# Altium footprint library Package_SO.PcbLib: 393 footprints (part 2 of 25)
Each footprint in its own frame and in the unit in brackets; x right, y up, seen from the top. Pads: shape width x height; smd on the part's side, far side on the other; paste and mask are expansions set on the pad; w line width, h text height; cw(c..) or ccw(c..) is an arc to the next point about the centre after c.
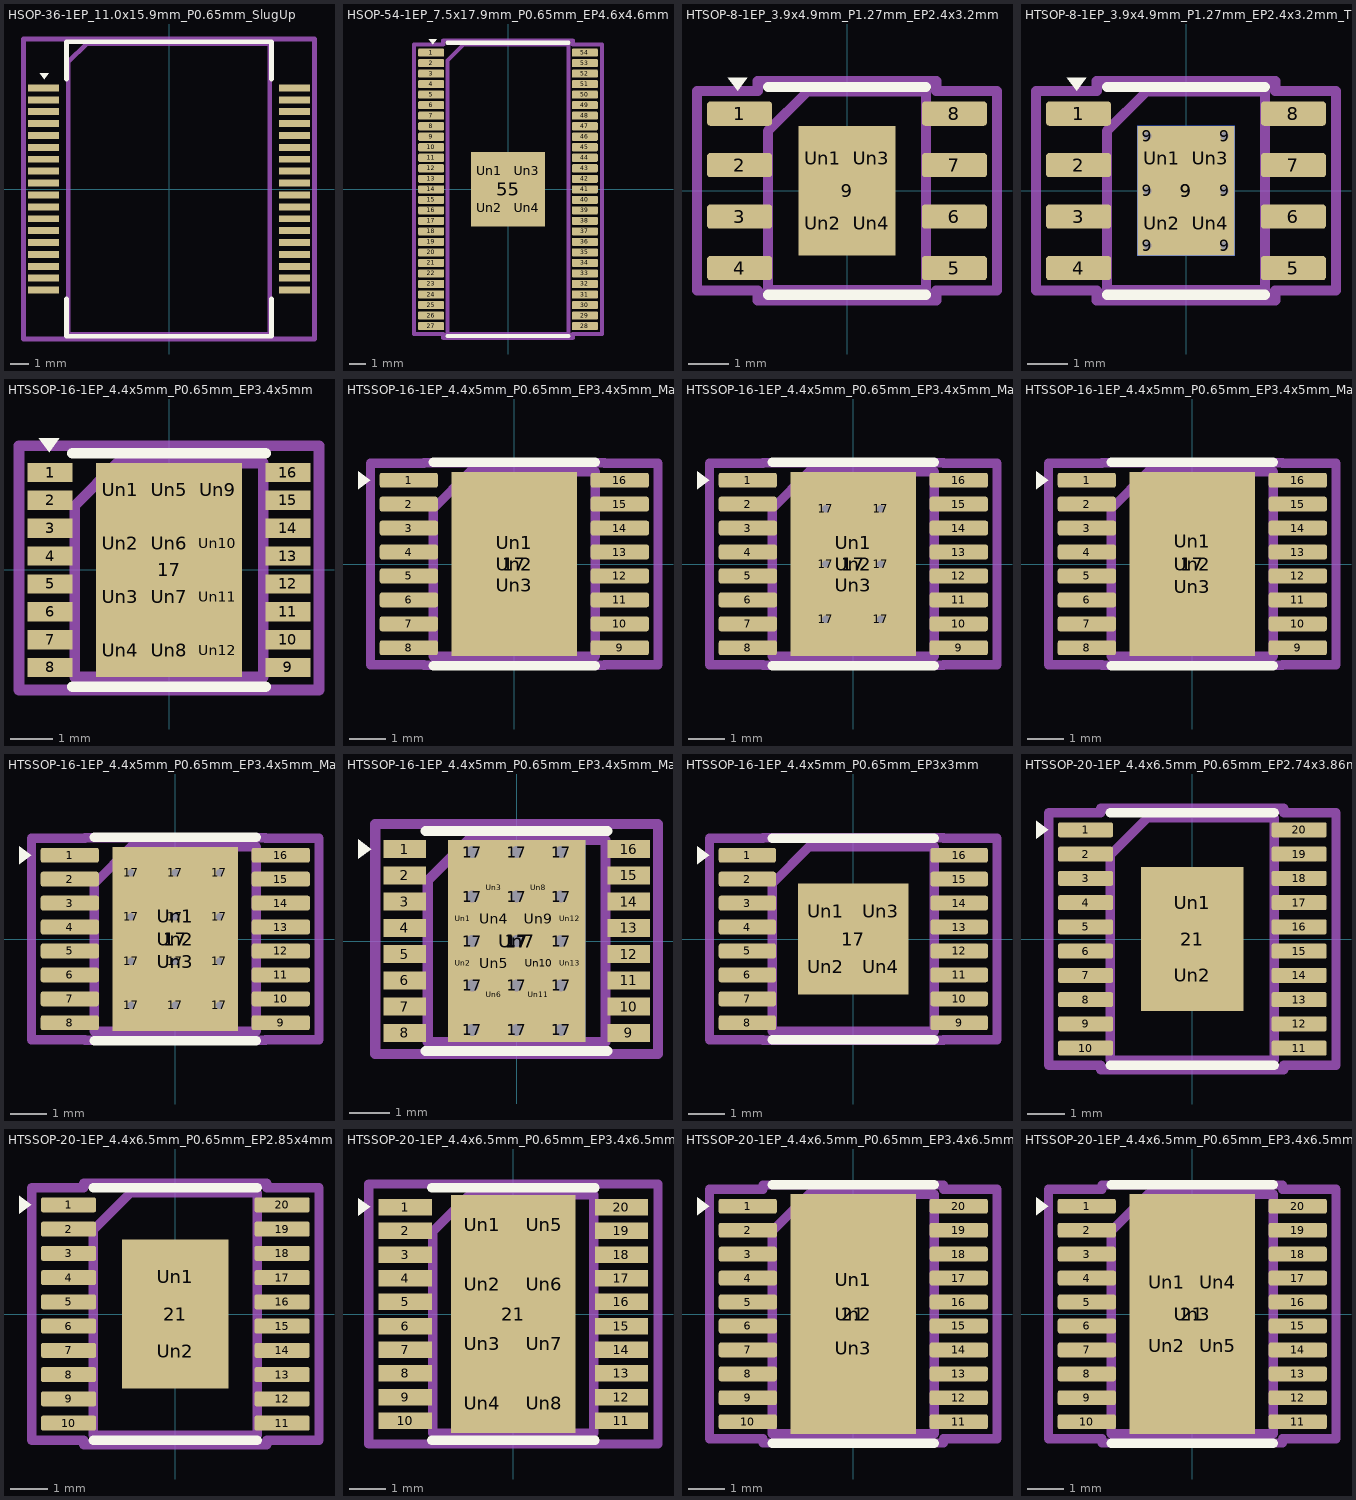
[diagram p1: the footprints below, top view; thin cyan lines are the x and y axes]

## HSOP-36-1EP_11.0x15.9mm_P0.65mm_SlugUp [mm]
pads (36):
  rect 1.7x0.38 smd: 1(-6.85,5.525) 2(-6.85,4.875) 3(-6.85,4.225) 4(-6.85,3.575) 5(-6.85,2.925) 6(-6.85,2.275) 7(-6.85,1.625) 8(-6.85,0.975) 9(-6.85,0.325) 10(-6.85,-0.325) 11(-6.85,-0.975) 12(-6.85,-1.625) 13(-6.85,-2.275) 14(-6.85,-2.925) 15(-6.85,-3.575) 16(-6.85,-4.225) 17(-6.85,-4.875) 18(-6.85,-5.525) 19(6.85,-5.525) 20(6.85,-4.875) 21(6.85,-4.225) 22(6.85,-3.575) 23(6.85,-2.925) 24(6.85,-2.275) 25(6.85,-1.625) 26(6.85,-0.975) 27(6.85,-0.325) 28(6.85,0.325) 29(6.85,0.975) 30(6.85,1.625) 31(6.85,2.275) 32(6.85,2.925) 33(6.85,3.575) 34(6.85,4.225) 35(6.85,4.875) 36(6.85,5.525)
F.SilkS:
  region: -6.825,6 -7.065,6.33 -6.585,6.33
  lines w0.254: -5.6,-6 -5.6,-8.05 5.6,-8.05 5.6,-6 ; -5.6,6 -5.6,8.05 5.6,8.05 5.6,6
Top Assembly:
  lines w0.254: -5.5,-7.95 5.5,-7.95 5.5,7.95 -4.5,7.95 -5.5,6.95 -5.5,-7.95
  text "'.Designator'" at -4.047,-0.84 h1
Top Courtyard:
  lines w0.254: -7.95,-8.2 7.95,-8.2 7.95,8.2 -7.95,8.2 -7.95,-8.2
Top Designator:
  text ".Designator" at -7.618,-0.508 h1.52

## HSOP-54-1EP_7.5x17.9mm_P0.65mm_EP4.6x4.6mm [mm]
pads (59):
  rrect25% 1.6x0.5 smd: 1(-4.75,8.45) 2(-4.75,7.8) 3(-4.75,7.15) 4(-4.75,6.5) 5(-4.75,5.85) 6(-4.75,5.2) 7(-4.75,4.55) 8(-4.75,3.9) 9(-4.75,3.25) 10(-4.75,2.6) 11(-4.75,1.95) 12(-4.75,1.3) 13(-4.75,0.65) 14(-4.75,0) 15(-4.75,-0.65) 16(-4.75,-1.3) 17(-4.75,-1.95) 18(-4.75,-2.6) 19(-4.75,-3.25) 20(-4.75,-3.9) 21(-4.75,-4.55) 22(-4.75,-5.2) 23(-4.75,-5.85) 24(-4.75,-6.5) 25(-4.75,-7.15) 26(-4.75,-7.8) 27(-4.75,-8.45) 28(4.75,-8.45) 29(4.75,-7.8) 30(4.75,-7.15) 31(4.75,-6.5) 32(4.75,-5.85) 33(4.75,-5.2) 34(4.75,-4.55) 35(4.75,-3.9) 36(4.75,-3.25) 37(4.75,-2.6) 38(4.75,-1.95) 39(4.75,-1.3) 40(4.75,-0.65) 41(4.75,0) 42(4.75,0.65) 43(4.75,1.3) 44(4.75,1.95) 45(4.75,2.6) 46(4.75,3.25) 47(4.75,3.9) 48(4.75,4.55) 49(4.75,5.2) 50(4.75,5.85) 51(4.75,6.5) 52(4.75,7.15) 53(4.75,7.8) 54(4.75,8.45)
  rect 4.6x4.6 smd: 55(0,0)
  rrect14% 1.85x1.85 on Top Paste: Un1(-1.15,1.15) Un2(-1.15,-1.15) Un3(1.15,1.15) Un4(1.15,-1.15)
F.SilkS:
  region: -4.65,8.96 -4.89,9.29 -4.41,9.29
  lines w0.254: -3.75,-9.06 0,-9.06 3.75,-9.06 ; -3.75,9.06 0,9.06 3.75,9.06
Top Assembly:
  lines w0.254: -3.75,-8.95 3.75,-8.95 3.75,8.95 -2.75,8.95 -3.75,7.95 -3.75,-8.95
  text "'.Designator'" at -4.047,-0.84 h1
Top Courtyard:
  lines w0.254: -5.8,-8.95 -4,-8.95 -4,-9.2 4,-9.2 4,-8.95 5.8,-8.95 5.8,8.95 4,8.95 4,9.2 -4,9.2 -4,8.95 -5.8,8.95 -5.8,-8.95
Top Designator:
  text ".Designator" at -7.618,-0.508 h1.52

## HTSOP-8-1EP_3.9x4.9mm_P1.27mm_EP2.4x3.2mm [mm]
pads (13):
  rrect25% 1.6x0.6 smd: 1(-2.65,1.905) 2(-2.65,0.635) 3(-2.65,-0.635) 4(-2.65,-1.905) 5(2.65,-1.905) 6(2.65,-0.635) 7(2.65,0.635) 8(2.65,1.905)
  rect 2.4x3.2 smd: 9(0,0)
  rrect25% 0.97x1.29 on Top Paste: Un1(-0.6,0.8) Un2(-0.6,-0.8) Un3(0.6,0.8) Un4(0.6,-0.8)
F.SilkS:
  region: -2.7,2.465 -2.94,2.795 -2.46,2.795
  lines w0.254: -1.95,-2.56 0,-2.56 1.95,-2.56 ; -1.95,2.56 0,2.56 1.95,2.56
Top Assembly:
  lines w0.254: -1.95,-2.45 1.95,-2.45 1.95,2.45 -0.975,2.45 -1.95,1.475 -1.95,-2.45
  text "'.Designator'" at -3.969,-0.827 h0.98
Top Courtyard:
  lines w0.254: -3.7,-2.46 -2.2,-2.46 -2.2,-2.7 2.2,-2.7 2.2,-2.46 3.7,-2.46 3.7,2.46 2.2,2.46 2.2,2.7 -2.2,2.7 -2.2,2.46 -3.7,2.46 -3.7,-2.46
Top Designator:
  text ".Designator" at -7.763,-0.508 h1.52

## HTSOP-8-1EP_3.9x4.9mm_P1.27mm_EP2.4x3.2mm_ThermalVias [mm]
pads (20):
  rrect25% 1.6x0.6 smd: 1(-2.65,1.905) 2(-2.65,0.635) 3(-2.65,-0.635) 4(-2.65,-1.905) 5(2.65,-1.905) 6(2.65,-0.635) 7(2.65,0.635) 8(2.65,1.905)
  round 0.5 hole 0.2: 9(-0.95,-1.35) 9(-0.95,0) 9(-0.95,1.35) 9(0.95,-1.35) 9(0.95,0) 9(0.95,1.35)
  rect 2.4x3.2 smd: 9(0,0)
  rect 2.4x3.2 smd far side: 9(0,0)
  rrect25% 0.97x1.29 on Top Paste: Un1(-0.6,0.8) Un2(-0.6,-0.8) Un3(0.6,0.8) Un4(0.6,-0.8)
F.SilkS:
  region: -2.7,2.465 -2.94,2.795 -2.46,2.795
  lines w0.254: -1.95,-2.56 0,-2.56 1.95,-2.56 ; -1.95,2.56 0,2.56 1.95,2.56
Top Assembly:
  lines w0.254: -1.95,-2.45 1.95,-2.45 1.95,2.45 -0.975,2.45 -1.95,1.475 -1.95,-2.45
  text "'.Designator'" at -3.969,-0.827 h0.98
Top Courtyard:
  lines w0.254: -3.7,-2.46 -2.2,-2.46 -2.2,-2.7 2.2,-2.7 2.2,-2.46 3.7,-2.46 3.7,2.46 2.2,2.46 2.2,2.7 -2.2,2.7 -2.2,2.46 -3.7,2.46 -3.7,-2.46
Top Designator:
  text ".Designator" at -7.763,-0.508 h1.52

## HTSSOP-16-1EP_4.4x5mm_P0.65mm_EP3.4x5mm [mm]
pads (29):
  rect 1.05x0.45 smd: 1(-2.775,2.275) 2(-2.775,1.625) 3(-2.775,0.975) 4(-2.775,0.325) 5(-2.775,-0.325) 6(-2.775,-0.975) 7(-2.775,-1.625) 8(-2.775,-2.275) 9(2.775,-2.275) 10(2.775,-1.625) 11(2.775,-0.975) 12(2.775,-0.325) 13(2.775,0.325) 14(2.775,0.975) 15(2.775,1.625) 16(2.775,2.275)
  rect 3.4x5 smd: 17(0,0)
  rect 0.88x1.05 on Top Paste: Un1(-1.133,1.875) Un2(-1.133,0.625) Un3(-1.133,-0.625) Un4(-1.133,-1.875) Un5(0,1.875) Un6(0,0.625) Un7(0,-0.625) Un8(0,-1.875) Un9(1.133,1.875) Un10(1.133,0.625) Un11(1.133,-0.625) Un12(1.133,-1.875)
F.SilkS:
  region: -2.8,2.75 -3.04,3.08 -2.56,3.08
  lines w0.254: -2.25,-2.725 2.25,-2.725 ; -2.25,2.725 2.25,2.725
Top Assembly:
  lines w0.254: -2.2,-2.5 2.2,-2.5 2.2,2.5 -1.2,2.5 -2.2,1.5 -2.2,-2.5
  text "'.Designator'" at -4.047,-0.84 h1
Top Courtyard:
  lines w0.254: -3.5,-2.8 3.5,-2.8 3.5,2.9 -3.5,2.9 -3.5,-2.8
Top Designator:
  text ".Designator" at -7.768,-0.431 h1.52

## HTSSOP-16-1EP_4.4x5mm_P0.65mm_EP3.4x5mm_Mask2.46x2.31mm [mm]
pads (20):
  rrect25% 1.575x0.4 smd: 1(-2.863,2.275) 2(-2.863,1.625) 3(-2.863,0.975) 4(-2.863,0.325) 5(-2.863,-0.325) 6(-2.863,-0.975) 7(-2.863,-1.625) 8(-2.863,-2.275) 9(2.863,-2.275) 10(2.863,-1.625) 11(2.863,-0.975) 12(2.863,-0.325) 13(2.863,0.325) 14(2.863,0.975) 15(2.863,1.625) 16(2.863,2.275)
  rect 3.4x5 smd: 17(0,0)
  rrect25% 1.98x0.93 on Top Paste: Un1(0,0.58) Un3(0,-0.58)
  rect 2.46x2.31 on Top Solder: Un2(0,0)
F.SilkS:
  region: -3.91,2.275 -4.24,2.035 -4.24,2.515
  lines w0.254: -2.2,-2.76 0,-2.76 2.2,-2.76 ; -2.2,2.76 0,2.76 2.2,2.76
Top Assembly:
  lines w0.254: -2.2,-2.5 2.2,-2.5 2.2,2.5 -1.2,2.5 -2.2,1.5 -2.2,-2.5
  text "'.Designator'" at -4.047,-0.84 h1
Top Courtyard:
  lines w0.254: -3.9,-2.73 -2.45,-2.73 -2.45,-2.75 2.45,-2.75 2.45,-2.73 3.9,-2.73 3.9,2.73 2.45,2.73 2.45,2.75 -2.45,2.75 -2.45,2.73 -3.9,2.73 -3.9,-2.73
Top Designator:
  text ".Designator" at -7.724,-0.508 h1.52

## HTSSOP-16-1EP_4.4x5mm_P0.65mm_EP3.4x5mm_Mask2.46x2.31mm_ThermalVias [mm]
pads (27):
  rrect25% 1.575x0.4 smd: 1(-2.863,2.275) 2(-2.863,1.625) 3(-2.863,0.975) 4(-2.863,0.325) 5(-2.863,-0.325) 6(-2.863,-0.975) 7(-2.863,-1.625) 8(-2.863,-2.275) 9(2.863,-2.275) 10(2.863,-1.625) 11(2.863,-0.975) 12(2.863,-0.325) 13(2.863,0.325) 14(2.863,0.975) 15(2.863,1.625) 16(2.863,2.275)
  round 0.5 hole 0.2: 17(-0.75,-1.5) 17(-0.75,0) 17(-0.75,1.5) 17(0.75,-1.5) 17(0.75,0) 17(0.75,1.5)
  rect 3.4x5 smd: 17(0,0)
  rect 2x3.5 smd far side: 17(0,0)
  rrect25% 1.98x0.93 on Top Paste: Un1(0,0.58) Un3(0,-0.58)
  rect 2.46x2.31 on Top Solder: Un2(0,0)
F.SilkS:
  region: -3.91,2.275 -4.24,2.035 -4.24,2.515
  lines w0.254: -2.2,-2.76 0,-2.76 2.2,-2.76 ; -2.2,2.76 0,2.76 2.2,2.76
Top Assembly:
  lines w0.254: -2.2,-2.5 2.2,-2.5 2.2,2.5 -1.2,2.5 -2.2,1.5 -2.2,-2.5
  text "'.Designator'" at -4.047,-0.84 h1
Top Courtyard:
  lines w0.254: -3.9,-2.73 -2.45,-2.73 -2.45,-2.75 2.45,-2.75 2.45,-2.73 3.9,-2.73 3.9,2.73 2.45,2.73 2.45,2.75 -2.45,2.75 -2.45,2.73 -3.9,2.73 -3.9,-2.73
Top Designator:
  text ".Designator" at -7.724,-0.508 h1.52

## HTSSOP-16-1EP_4.4x5mm_P0.65mm_EP3.4x5mm_Mask2.66x2.46mm [mm]
pads (20):
  rrect25% 1.575x0.4 smd: 1(-2.863,2.275) 2(-2.863,1.625) 3(-2.863,0.975) 4(-2.863,0.325) 5(-2.863,-0.325) 6(-2.863,-0.975) 7(-2.863,-1.625) 8(-2.863,-2.275) 9(2.863,-2.275) 10(2.863,-1.625) 11(2.863,-0.975) 12(2.863,-0.325) 13(2.863,0.325) 14(2.863,0.975) 15(2.863,1.625) 16(2.863,2.275)
  rect 3.4x5 smd: 17(0,0)
  rrect25% 2.14x0.99 on Top Paste: Un1(0,0.615) Un3(0,-0.615)
  rect 2.66x2.46 on Top Solder: Un2(0,0)
F.SilkS:
  region: -3.91,2.275 -4.24,2.035 -4.24,2.515
  lines w0.254: -2.2,-2.76 0,-2.76 2.2,-2.76 ; -2.2,2.76 0,2.76 2.2,2.76
Top Assembly:
  lines w0.254: -2.2,-2.5 2.2,-2.5 2.2,2.5 -1.2,2.5 -2.2,1.5 -2.2,-2.5
  text "'.Designator'" at -4.047,-0.84 h1
Top Courtyard:
  lines w0.254: -3.9,-2.73 -2.45,-2.73 -2.45,-2.75 2.45,-2.75 2.45,-2.73 3.9,-2.73 3.9,2.73 2.45,2.73 2.45,2.75 -2.45,2.75 -2.45,2.73 -3.9,2.73 -3.9,-2.73
Top Designator:
  text ".Designator" at -7.724,-0.508 h1.52

## HTSSOP-16-1EP_4.4x5mm_P0.65mm_EP3.4x5mm_Mask2.66x2.46mm_ThermalVias [mm]
pads (33):
  rrect25% 1.575x0.4 smd: 1(-2.863,2.275) 2(-2.863,1.625) 3(-2.863,0.975) 4(-2.863,0.325) 5(-2.863,-0.325) 6(-2.863,-0.975) 7(-2.863,-1.625) 8(-2.863,-2.275) 9(2.863,-2.275) 10(2.863,-1.625) 11(2.863,-0.975) 12(2.863,-0.325) 13(2.863,0.325) 14(2.863,0.975) 15(2.863,1.625) 16(2.863,2.275)
  round 0.5 hole 0.2: 17(-1.2,-1.8) 17(-1.2,-0.6) 17(-1.2,0.6) 17(-1.2,1.8) 17(0,-1.8) 17(0,-0.6) 17(0,0.6) 17(0,1.8) 17(1.2,-1.8) 17(1.2,-0.6) 17(1.2,0.6) 17(1.2,1.8)
  rect 3.4x5 smd: 17(0,0)
  rect 2.9x4.1 smd far side: 17(0,0)
  rrect25% 2.14x0.99 on Top Paste: Un1(0,0.615) Un3(0,-0.615)
  rect 2.66x2.46 on Top Solder: Un2(0,0)
F.SilkS:
  region: -3.91,2.275 -4.24,2.035 -4.24,2.515
  lines w0.254: -2.2,-2.76 0,-2.76 2.2,-2.76 ; -2.2,2.76 0,2.76 2.2,2.76
Top Assembly:
  lines w0.254: -2.2,-2.5 2.2,-2.5 2.2,2.5 -1.2,2.5 -2.2,1.5 -2.2,-2.5
  text "'.Designator'" at -4.047,-0.84 h1
Top Courtyard:
  lines w0.254: -3.9,-2.73 -2.45,-2.73 -2.45,-2.75 2.45,-2.75 2.45,-2.73 3.9,-2.73 3.9,2.73 2.45,2.73 2.45,2.75 -2.45,2.75 -2.45,2.73 -3.9,2.73 -3.9,-2.73
Top Designator:
  text ".Designator" at -7.724,-0.508 h1.52

## HTSSOP-16-1EP_4.4x5mm_P0.65mm_EP3.4x5mm_Mask3x3mm_ThermalVias [mm]
pads (46):
  rect 1.05x0.45 smd: 1(-2.775,2.275) 2(-2.775,1.625) 3(-2.775,0.975) 4(-2.775,0.325) 5(-2.775,-0.325) 6(-2.775,-0.975) 7(-2.775,-1.625) 8(-2.775,-2.275) 9(2.775,-2.275) 10(2.775,-1.625) 11(2.775,-0.975) 12(2.775,-0.325) 13(2.775,0.325) 14(2.775,0.975) 15(2.775,1.625) 16(2.775,2.275)
  round 0.6 hole 0.3: 17(-1.1,-2.2) 17(-1.1,-1.1) 17(-1.1,0) 17(-1.1,1.1) 17(-1.1,2.2) 17(0,-2.2) 17(0,-1.1) 17(0,0) 17(0,1.1) 17(0,2.2) 17(1.1,-2.2) 17(1.1,-1.1) 17(1.1,0) 17(1.1,1.1) 17(1.1,2.2)
  rect 3.4x5 smd: 17(0,0)
  rect 3.4x5 smd far side: 17(0,0)
  rect 0.25x0.8 on Top Paste: Un1(-1.325,0.55) Un2(-1.325,-0.55) Un12(1.325,0.55) Un13(1.325,-0.55)
  rect 0.8x0.25 on Top Paste: Un3(-0.55,1.325) Un6(-0.55,-1.325) Un8(0.55,1.325) Un11(0.55,-1.325)
  rect 0.85x0.8 on Top Paste: Un4(-0.55,0.55)
  rect 0.85x0.85 on Top Paste: Un5(-0.55,-0.55) Un9(0.55,0.55) Un10(0.55,-0.55)
  rect 3x3 on Top Solder: Un7(0,0)
F.SilkS:
  region: -3.6,2.275 -3.93,2.035 -3.93,2.515
  lines w0.254: -2.25,-2.725 2.25,-2.725 ; -2.25,2.725 2.25,2.725
Top Assembly:
  lines w0.254: -2.2,-2.5 2.2,-2.5 2.2,2.5 -1.2,2.5 -2.2,1.5 -2.2,-2.5
  text "'.Designator'" at -4.047,-0.84 h1
Top Courtyard:
  lines w0.254: -3.5,-2.8 3.5,-2.8 3.5,2.9 -3.5,2.9 -3.5,-2.8
Top Designator:
  text ".Designator" at -7.768,-0.458 h1.52

## HTSSOP-16-1EP_4.4x5mm_P0.65mm_EP3x3mm [mm]
pads (21):
  rrect25% 1.55x0.4 smd: 1(-2.875,2.275) 2(-2.875,1.625) 3(-2.875,0.975) 4(-2.875,0.325) 5(-2.875,-0.325) 6(-2.875,-0.975) 7(-2.875,-1.625) 8(-2.875,-2.275) 9(2.875,-2.275) 10(2.875,-1.625) 11(2.875,-0.975) 12(2.875,-0.325) 13(2.875,0.325) 14(2.875,0.975) 15(2.875,1.625) 16(2.875,2.275)
  rect 3x3 smd: 17(0,0)
  rrect21% 1.21x1.21 on Top Paste: Un1(-0.75,0.75) Un2(-0.75,-0.75) Un3(0.75,0.75) Un4(0.75,-0.75)
F.SilkS:
  region: -3.91,2.275 -4.24,2.035 -4.24,2.515
  lines w0.254: -2.2,-2.735 0,-2.735 2.2,-2.735 ; -2.2,2.735 0,2.735 2.2,2.735
Top Assembly:
  lines w0.254: -2.2,-2.5 2.2,-2.5 2.2,2.5 -1.2,2.5 -2.2,1.5 -2.2,-2.5
  text "'.Designator'" at -4.047,-0.84 h1
Top Courtyard:
  lines w0.254: -3.9,-2.73 -2.45,-2.73 -2.45,-2.75 2.45,-2.75 2.45,-2.73 3.9,-2.73 3.9,2.73 2.45,2.73 2.45,2.75 -2.45,2.75 -2.45,2.73 -3.9,2.73 -3.9,-2.73
Top Designator:
  text ".Designator" at -7.724,-0.508 h1.52

## HTSSOP-20-1EP_4.4x6.5mm_P0.65mm_EP2.74x3.86mm [mm]
pads (23):
  rrect25% 1.475x0.4 smd: 1(-2.863,2.925) 2(-2.863,2.275) 3(-2.863,1.625) 4(-2.863,0.975) 5(-2.863,0.325) 6(-2.863,-0.325) 7(-2.863,-0.975) 8(-2.863,-1.625) 9(-2.863,-2.275) 10(-2.863,-2.925) 11(2.863,-2.925) 12(2.863,-2.275) 13(2.863,-1.625) 14(2.863,-0.975) 15(2.863,-0.325) 16(2.863,0.325) 17(2.863,0.975) 18(2.863,1.625) 19(2.863,2.275) 20(2.863,2.925)
  rect 2.74x3.86 smd: 21(0,0)
  rrect16% 2.21x1.56 on Top Paste: Un1(0,0.965) Un2(0,-0.965)
F.SilkS:
  region: -3.86,2.925 -4.19,2.685 -4.19,3.165
  lines w0.254: -2.2,-3.385 0,-3.385 2.2,-3.385 ; -2.2,3.385 0,3.385 2.2,3.385
Top Assembly:
  lines w0.254: -2.2,-3.25 2.2,-3.25 2.2,3.25 -1.2,3.25 -2.2,2.25 -2.2,-3.25
  text "'.Designator'" at -4.047,-0.84 h1
Top Courtyard:
  lines w0.254: -3.85,-3.38 -2.45,-3.38 -2.45,-3.5 2.45,-3.5 2.45,-3.38 3.85,-3.38 3.85,3.38 2.45,3.38 2.45,3.5 -2.45,3.5 -2.45,3.38 -3.85,3.38 -3.85,-3.38
Top Designator:
  text ".Designator" at -7.727,-0.508 h1.52

## HTSSOP-20-1EP_4.4x6.5mm_P0.65mm_EP2.85x4mm [mm]
pads (23):
  rrect25% 1.475x0.4 smd: 1(-2.863,2.925) 2(-2.863,2.275) 3(-2.863,1.625) 4(-2.863,0.975) 5(-2.863,0.325) 6(-2.863,-0.325) 7(-2.863,-0.975) 8(-2.863,-1.625) 9(-2.863,-2.275) 10(-2.863,-2.925) 11(2.863,-2.925) 12(2.863,-2.275) 13(2.863,-1.625) 14(2.863,-0.975) 15(2.863,-0.325) 16(2.863,0.325) 17(2.863,0.975) 18(2.863,1.625) 19(2.863,2.275) 20(2.863,2.925)
  rect 2.85x4 smd: 21(0,0)
  rrect16% 2.3x1.61 on Top Paste: Un1(0,1) Un2(0,-1)
F.SilkS:
  region: -3.86,2.925 -4.19,2.685 -4.19,3.165
  lines w0.254: -2.2,-3.385 0,-3.385 2.2,-3.385 ; -2.2,3.385 0,3.385 2.2,3.385
Top Assembly:
  lines w0.254: -2.2,-3.25 2.2,-3.25 2.2,3.25 -1.2,3.25 -2.2,2.25 -2.2,-3.25
  text "'.Designator'" at -4.047,-0.84 h1
Top Courtyard:
  lines w0.254: -3.85,-3.38 -2.45,-3.38 -2.45,-3.5 2.45,-3.5 2.45,-3.38 3.85,-3.38 3.85,3.38 2.45,3.38 2.45,3.5 -2.45,3.5 -2.45,3.38 -3.85,3.38 -3.85,-3.38
Top Designator:
  text ".Designator" at -7.727,-0.508 h1.52

## HTSSOP-20-1EP_4.4x6.5mm_P0.65mm_EP3.4x6.5mm [mm]
pads (29):
  rect 1.45x0.45 smd: 1(-2.95,2.92) 2(-2.95,2.27) 3(-2.95,1.62) 4(-2.95,0.97) 5(-2.95,0.33) 6(-2.95,-0.33) 7(-2.95,-0.97) 8(-2.95,-1.62) 9(-2.95,-2.27) 10(-2.95,-2.92) 11(2.95,-2.92) 12(2.95,-2.27) 13(2.95,-1.62) 14(2.95,-0.97) 15(2.95,-0.33) 16(2.95,0.33) 17(2.95,0.97) 18(2.95,1.62) 19(2.95,2.27) 20(2.95,2.92)
  rect 3.4x6.5 smd: 21(0,0)
  rect 1.4x1.325 on Top Paste: Un1(-0.85,2.438) Un2(-0.85,0.813) Un3(-0.85,-0.813) Un4(-0.85,-2.438) Un5(0.85,2.438) Un6(0.85,0.813) Un7(0.85,-0.813) Un8(0.85,-2.438)
F.SilkS:
  region: -3.91,2.925 -4.24,2.685 -4.24,3.165
  lines w0.254: -2.23,-3.45 2.23,-3.45 ; -2.23,3.45 2.23,3.45
Top Assembly:
  lines w0.254: -2.2,-3.25 2.2,-3.25 2.2,3.25 -1.2,3.25 -2.2,2.25 -2.2,-3.25
  text "'.Designator'" at -3.267,-0.702 h0.8
Top Courtyard:
  lines w0.254: -3.95,-3.55 3.95,-3.55 3.95,3.55 -3.95,3.55 -3.95,-3.55
Top Designator:
  text ".Designator" at -7.699,-0.508 h1.52

## HTSSOP-20-1EP_4.4x6.5mm_P0.65mm_EP3.4x6.5mm_Mask2.4x3.7mm [mm]
pads (24):
  rrect25% 1.575x0.4 smd: 1(-2.863,2.925) 2(-2.863,2.275) 3(-2.863,1.625) 4(-2.863,0.975) 5(-2.863,0.325) 6(-2.863,-0.325) 7(-2.863,-0.975) 8(-2.863,-1.625) 9(-2.863,-2.275) 10(-2.863,-2.925) 11(2.863,-2.925) 12(2.863,-2.275) 13(2.863,-1.625) 14(2.863,-0.975) 15(2.863,-0.325) 16(2.863,0.325) 17(2.863,0.975) 18(2.863,1.625) 19(2.863,2.275) 20(2.863,2.925)
  rect 3.4x6.5 smd: 21(0,0)
  rrect17% 1.93x1.49 on Top Paste: Un1(0,0.925) Un3(0,-0.925)
  rect 2.4x3.7 on Top Solder: Un2(0,0)
F.SilkS:
  region: -3.91,2.925 -4.24,2.685 -4.24,3.165
  lines w0.254: -2.2,-3.51 0,-3.51 2.2,-3.51 ; -2.2,3.51 0,3.51 2.2,3.51
Top Assembly:
  lines w0.254: -2.2,-3.25 2.2,-3.25 2.2,3.25 -1.2,3.25 -2.2,2.25 -2.2,-3.25
  text "'.Designator'" at -4.047,-0.84 h1
Top Courtyard:
  lines w0.254: -3.9,-3.38 -2.45,-3.38 -2.45,-3.5 2.45,-3.5 2.45,-3.38 3.9,-3.38 3.9,3.38 2.45,3.38 2.45,3.5 -2.45,3.5 -2.45,3.38 -3.9,3.38 -3.9,-3.38
Top Designator:
  text ".Designator" at -7.724,-0.508 h1.52

## HTSSOP-20-1EP_4.4x6.5mm_P0.65mm_EP3.4x6.5mm_Mask2.75x3.43mm [mm]
pads (26):
  rrect25% 1.575x0.4 smd: 1(-2.863,2.925) 2(-2.863,2.275) 3(-2.863,1.625) 4(-2.863,0.975) 5(-2.863,0.325) 6(-2.863,-0.325) 7(-2.863,-0.975) 8(-2.863,-1.625) 9(-2.863,-2.275) 10(-2.863,-2.925) 11(2.863,-2.925) 12(2.863,-2.275) 13(2.863,-1.625) 14(2.863,-0.975) 15(2.863,-0.325) 16(2.863,0.325) 17(2.863,0.975) 18(2.863,1.625) 19(2.863,2.275) 20(2.863,2.925)
  rect 3.4x6.5 smd: 21(0,0)
  rrect23% 1.11x1.38 on Top Paste: Un1(-0.69,0.86) Un2(-0.69,-0.86) Un4(0.69,0.86) Un5(0.69,-0.86)
  rect 2.75x3.43 on Top Solder: Un3(0,0)
F.SilkS:
  region: -3.91,2.925 -4.24,2.685 -4.24,3.165
  lines w0.254: -2.2,-3.51 0,-3.51 2.2,-3.51 ; -2.2,3.51 0,3.51 2.2,3.51
Top Assembly:
  lines w0.254: -2.2,-3.25 2.2,-3.25 2.2,3.25 -1.2,3.25 -2.2,2.25 -2.2,-3.25
  text "'.Designator'" at -4.047,-0.84 h1
Top Courtyard:
  lines w0.254: -3.9,-3.38 -2.45,-3.38 -2.45,-3.5 2.45,-3.5 2.45,-3.38 3.9,-3.38 3.9,3.38 2.45,3.38 2.45,3.5 -2.45,3.5 -2.45,3.38 -3.9,3.38 -3.9,-3.38
Top Designator:
  text ".Designator" at -7.724,-0.508 h1.52